# Altium schematic symbol library LDL1117S50R.SchLib: 1 symbol
Pins are listed as number, name and electrical type; pins without a type are passive.

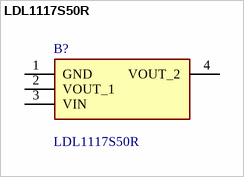
[diagram p0: symbol LDL1117S50R]

## LDL1117S50R
designator B?
STMICROELECTRONICS - LDL1117S50R - LDO, FIXED, 5V, 1.2A, SOT-223-3; Geometry.Height: 1.8mm; Manufacturer_Name: STMicroelectronics; Manufacturer_Part_Number: LDL1117S50R; Mouser Part Number: 511-LDL1117S50R; Mouser Price/Stock: https://www.mouser.co.uk/ProductDetail/STMicroelectronics/LDL1117S50R?qs=AQlKX63v8RsuN9BQFiVf%2Fg%3D%3D; Arrow Part Number: LDL1117S50R; Arrow Price/Stock: https://www.arrow.com/en/products/ldl1117s50r/stmicroelectronics?region=nac; Mouser Testing Part Number: *; Mouser Testing Price/Stock: *; Datasheet Link: http://www.farnell.com/datasheets/2259188.pdf
footprint SOT230P700X180-4N
pins: 1 GND, 2 VOUT_1, 3 VIN, 4 VOUT_2